# Altium footprint library MAX_MAX8686_T4066M+1_N.PcbLib: 1 footprints
Each footprint in its own frame and in the unit in brackets; x right, y up, seen from the top. Pads: shape width x height; smd on the part's side, far side on the other; paste and mask are expansions set on the pad; w line width, h text height; cw(c..) or ccw(c..) is an arc to the next point about the centre after c.
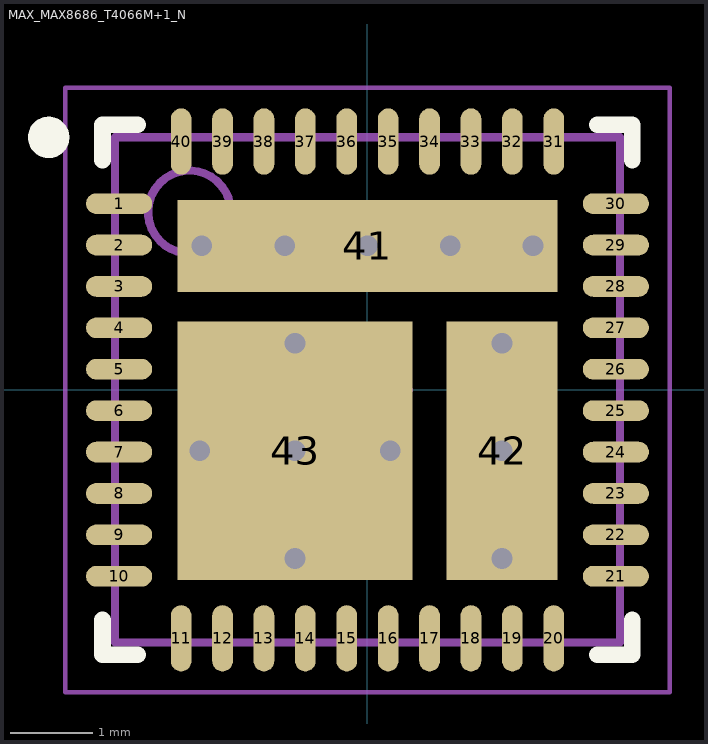
[diagram p0: the footprint, top view; thin cyan lines are the x and y axes]

## MAX_MAX8686_T4066M+1_N [mm] "QFN, 40-Leads, Body 6x6mm, Pitch 0.5mm, Three Thermal Pads, IPC Medium Density"
height 0.8
pads (43):
  oval 0.8x0.25 smd: 1(-3,2.25) 2(-3,1.75) 3(-3,1.25) 4(-3,0.75) 5(-3,0.25) 6(-3,-0.25) 7(-3,-0.75) 8(-3,-1.25) 9(-3,-1.75) 10(-3,-2.25) 21(3,-2.25) 22(3,-1.75) 23(3,-1.25) 24(3,-0.75) 25(3,-0.25) 26(3,0.25) 27(3,0.75) 28(3,1.25) 29(3,1.75) 30(3,2.25)
  oval 0.25x0.8 smd: 11(-2.25,-3) 12(-1.75,-3) 13(-1.25,-3) 14(-0.75,-3) 15(-0.25,-3) 16(0.25,-3) 17(0.75,-3) 18(1.25,-3) 19(1.75,-3) 20(2.25,-3) 31(2.25,3) 32(1.75,3) 33(1.25,3) 34(0.75,3) 35(0.25,3) 36(-0.25,3) 37(-0.75,3) 38(-1.25,3) 39(-1.75,3) 40(-2.25,3)
  rect 4.59x1.11 smd: 41(0,1.74)
  rect 1.34x3.12 smd: 42(1.625,-0.735)
  rect 2.84x3.12 smd: 43(-0.875,-0.735)
via 0.275,-0.735 diameter 0.5 hole 0.25
via -2.025,-0.735 diameter 0.5 hole 0.25
via 1.625,-2.035 diameter 0.5 hole 0.25
via 1.625,0.565 diameter 0.5 hole 0.25
via -0.875,0.565 diameter 0.5 hole 0.25
via -0.875,-2.035 diameter 0.5 hole 0.25
via 1,1.74 diameter 0.5 hole 0.25
via 2,1.74 diameter 0.5 hole 0.25
via -2,1.74 diameter 0.5 hole 0.25
via -1,1.74 diameter 0.5 hole 0.25
via -0.875,-0.735 diameter 0.5 hole 0.25
via 1.625,-0.735 diameter 0.5 hole 0.25
via 0,1.74 diameter 0.5 hole 0.25
Top Overlay:
  circle w0.25: c-3.85,3.05 r0.125
  lines w0.2: -3.2,-2.775 -3.2,-3.2 -2.775,-3.2 ; -3.2,2.775 -3.2,3.2 -2.775,3.2 ; 2.775,-3.2 3.2,-3.2 3.2,-2.775 ; 2.775,3.2 3.2,3.2 3.2,2.775
Mechanical 13:
  circle w0.1: c-2.15,2.15 r0.5
  lines w0.1: -3.05,-3.05 -3.05,3.05 3.05,3.05 3.05,-3.05 -3.05,-3.05
Mechanical 15:
  lines w0.05: -3.65,-3.65 -3.65,3.65 3.65,3.65 3.65,-3.65 -3.65,-3.65
  lines w0.1: -0.5,0 0.5,0 ; 0,-0.5 0,0.5
3D body: height 0.8, standoff 0, extent -3.05,-3.05 3.05,3.05